# Altium footprint library WR-TBL_Rising Cage Clamp_5.00mm.PcbLib: 76 footprints (part 2 of 5)
Each footprint in its own frame and in the unit in brackets; x right, y up, seen from the top. Pads: shape width x height; smd on the part's side, far side on the other; paste and mask are expansions set on the pad; w line width, h text height; cw(c..) or ccw(c..) is an arc to the next point about the centre after c.
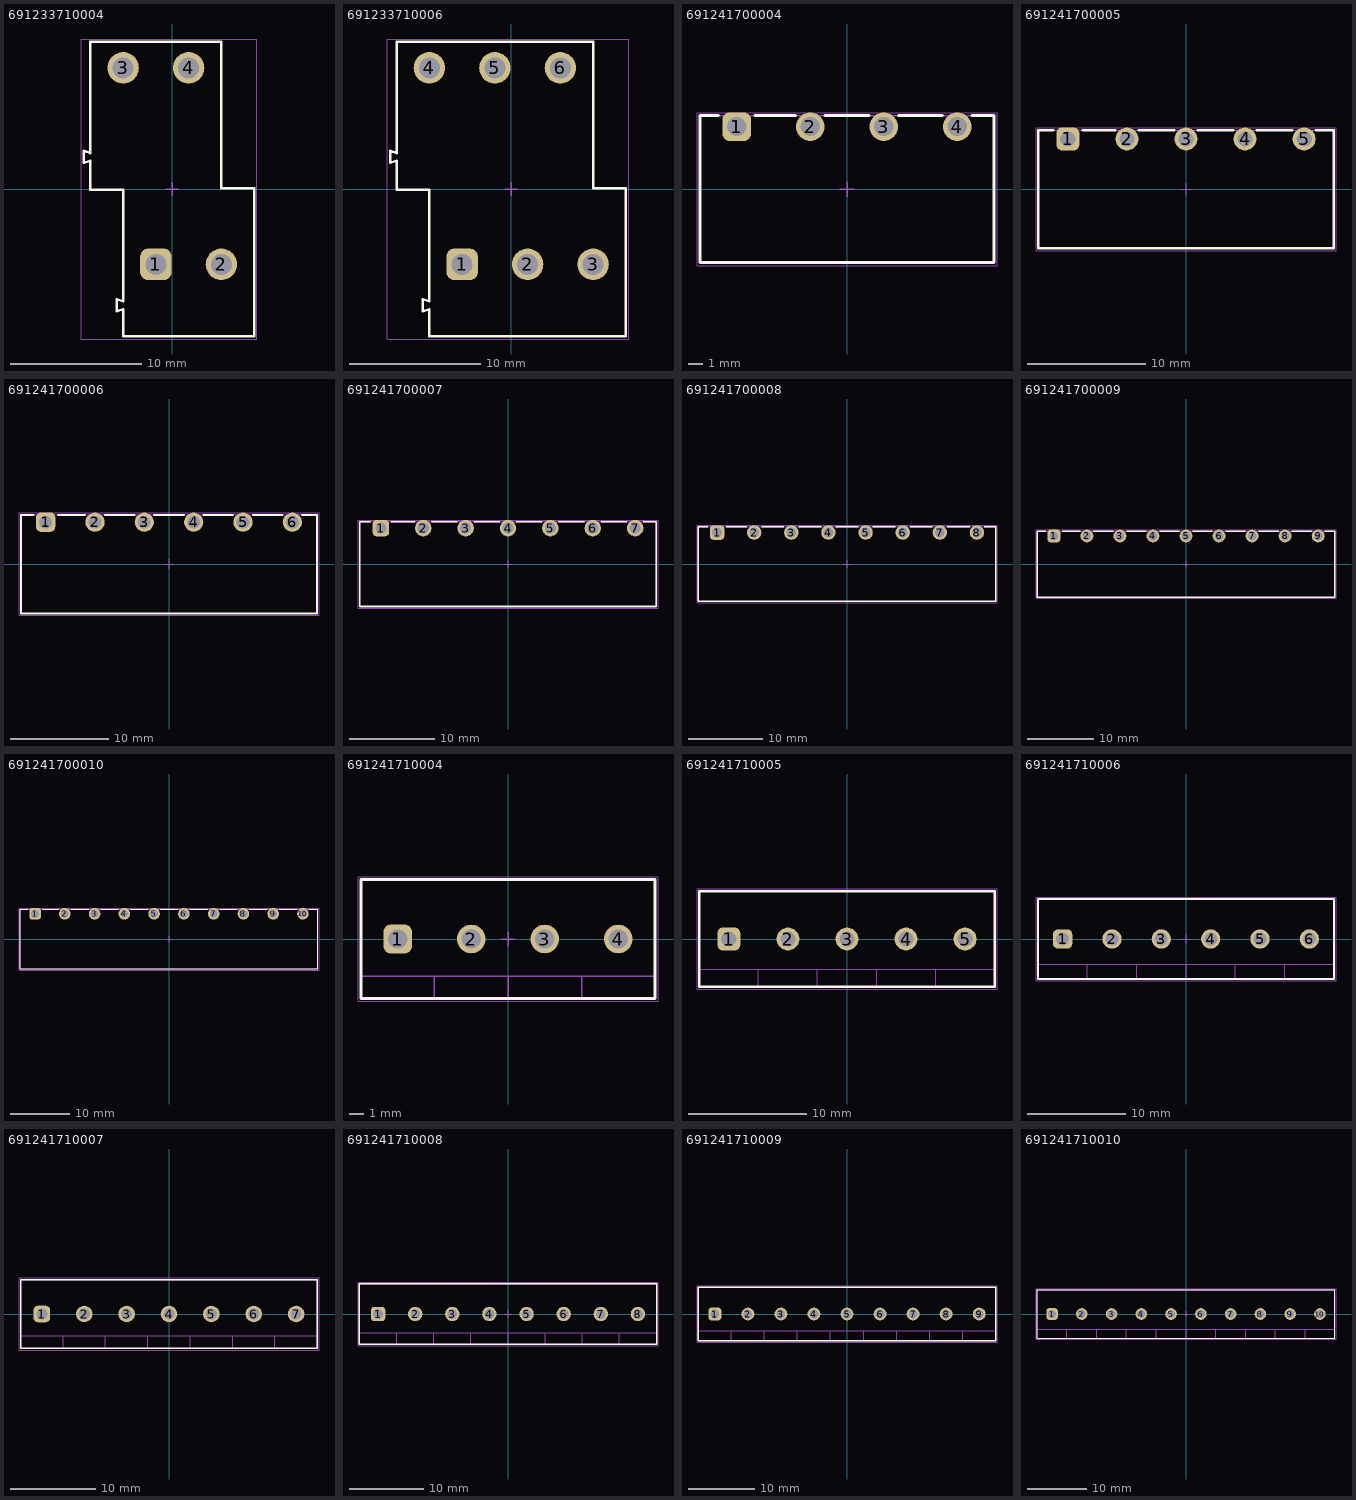
[diagram p1: the footprints below, top view; thin cyan lines are the x and y axes]

## 691233710004 [mm] "5,00mm - modular - 2 rows - Right - horizontal entry with rising cage clamp - 04p - h=31,5mm"
height 31.5
pads (4):
  rrect50% 2.4x2.4 hole 1.6: 1(-1.25,-5.75)
  round 2.4 hole 1.6: 2(3.75,-5.75) 3(-3.75,9.25) 4(1.25,9.25)
Top Overlay:
  lines w0.2: -6.75,2 -6.75,2.9 -6.25,2.75 -6.25,11.25 3.75,11.25 3.75,0.05 6.25,0.05 6.25,-11.25 -3.75,-11.25 -3.75,-9.17 -4.25,-9.32 -4.25,-8.42 -3.75,-8.57 -3.75,-0.05 -6.25,-0.05 -6.25,2.15 -6.75,2
Top Assembly:
  lines w0.1: -6.75,2 -6.25,2.15 -6.25,-0.05 -3.75,-0.05 -3.75,-8.57 -4.25,-8.42 -4.25,-9.32 -3.75,-9.17 -3.75,-11.25 6.25,-11.25 6.25,0.05 3.75,0.05 3.75,11.25 -6.25,11.25 -6.25,2.75 -6.75,2.9 -6.75,2
Top Designator:
  text ".Designator" at -3.647,-0.357 h1
Top 3D Body:
  lines w0.1: -6.75,2 -6.75,2.9 -6.25,2.75 -6.25,11.25 3.75,11.25 3.75,0.05 6.25,0.05 6.25,-11.25 -3.75,-11.25 -3.75,-9.17 -4.25,-9.32 -4.25,-8.42 -3.75,-8.57 -3.75,-0.05 -6.25,-0.05 -6.25,2.15 -6.75,2
Top Courtyard:
  lines w0.05: -6.95,-11.45 -6.95,11.45 6.45,11.45 6.45,-11.45 -6.95,-11.45
Top Component Center:
  lines w0.1: -0.5,0 0.5,0 ; 0,-0.5 0,0.5
3D body "691233710004.stp": height 31.55, standoff -4.95, extent -6.75,-11.25 6.25,11.25

## 691233710006 [mm] "5,00mm - modular - 2 rows - Right - horizontal entry with rising cage clamp - 06p - h=31,5mm"
height 31.5
pads (6):
  rrect50% 2.4x2.4 hole 1.6: 1(-3.75,-5.75)
  round 2.4 hole 1.6: 2(1.25,-5.75) 3(6.25,-5.75) 4(-6.25,9.25) 5(-1.25,9.25) 6(3.75,9.25)
Top Overlay:
  lines w0.2: -9.25,2 -9.25,2.9 -8.75,2.75 -8.75,11.25 6.25,11.25 6.25,0.05 8.75,0.05 8.75,-11.25 -6.25,-11.25 -6.25,-9.17 -6.75,-9.32 -6.75,-8.42 -6.25,-8.57 -6.25,-0.05 -8.75,-0.05 -8.75,2.15 -9.25,2
Top Assembly:
  lines w0.1: -9.25,2 -8.75,2.15 -8.75,-0.05 -6.25,-0.05 -6.25,-8.57 -6.75,-8.42 -6.75,-9.32 -6.25,-9.17 -6.25,-11.25 8.75,-11.25 8.75,0.05 6.25,0.05 6.25,11.25 -8.75,11.25 -8.75,2.75 -9.25,2.9 -9.25,2
Top Designator:
  text ".Designator" at -3.647,-0.357 h1
Top 3D Body:
  lines w0.1: -9.25,2 -9.25,2.9 -8.75,2.75 -8.75,11.25 6.25,11.25 6.25,0.05 8.75,0.05 8.75,-11.25 -6.25,-11.25 -6.25,-9.17 -6.75,-9.32 -6.75,-8.42 -6.25,-8.57 -6.25,-0.05 -8.75,-0.05 -8.75,2.15 -9.25,2
Top Courtyard:
  lines w0.05: -9.45,-11.45 -9.45,11.45 8.95,11.45 8.95,-11.45 -9.45,-11.45
Top Component Center:
  lines w0.1: -0.5,0 0.5,0 ; 0,-0.5 0,0.5
3D body "691233710006.stp": height 31.55, standoff -4.95, extent -9.25,-11.25 8.75,11.25

## 691241700004 [mm] "Serie 2417-5.00mm Vertical Cable Entry with Rising Cage Clamp, 4 pins"
height 8.1
pads (4):
  rrect50% 1.95x1.95 hole 1.3: 1(-7.5,4.25)
  round 1.95 hole 1.3: 2(-2.5,4.25) 3(2.5,4.25) 4(7.5,4.25)
Top Overlay:
  lines w0.2: -8.75,5 -10,5 -10,-5 10,-5 10,5 8.5,5 ; -6.25,5 -3.5,5 ; -1.5,5 1.5,5 ; 3.5,5 6.5,5
Top Assembly:
  lines w0.1: -10,-5 10,-5 10,5 -10,5 -10,-5
Top Designator:
  text ".Designator" at -3.647,-0.357 h1
Top 3D Body:
  lines w0.1: -10,-5 -10,5 10,5 10,-5 -10,-5
Top Courtyard:
  lines w0.05: -10.2,-5.2 10.2,-5.2 10.2,5.2 -10.2,5.2 -10.2,-5.2
Top Component Center:
  lines w0.1: -0.5,0 0.5,0 ; 0,-0.5 0,0.5
3D body "691241700004.stp": height 8.15, standoff -3.45, extent -10,-5 10,5

## 691241700005 [mm] "Serie 2417-5.00mm Vertical Cable Entry with Rising Cage Clamp, 5 pins"
height 8.1
pads (5):
  rrect50% 1.95x1.95 hole 1.3: 1(-10,4.25)
  round 1.95 hole 1.3: 2(-5,4.25) 3(0,4.25) 4(5,4.25) 5(10,4.25)
Top Overlay:
  lines w0.2: -11.25,5 -12.5,5 -12.5,-5 12.5,-5 12.5,5 11,5 ; -8.75,5 -6,5 ; -4,5 -1,5 ; 1,5 4,5 ; 6,5 9,5
Top Assembly:
  lines w0.1: -12.5,-5 12.5,-5 12.5,5 -12.5,5 -12.5,-5
Top Designator:
  text ".Designator" at -3.647,-0.357 h1
Top 3D Body:
  lines w0.1: -12.5,-5 -12.5,5 12.5,5 12.5,-5 -12.5,-5
Top Courtyard:
  lines w0.05: -12.7,-5.2 12.7,-5.2 12.7,5.2 -12.7,5.2 -12.7,-5.2
Top Component Center:
  lines w0.1: -0.5,0 0.5,0 ; 0,-0.5 0,0.5
3D body "691241700005.stp": height 8.15, standoff -3.45, extent -12.5,-5 12.5,5

## 691241700006 [mm] "Serie 2417-5.00mm Vertical Cable Entry with Rising Cage Clamp, 6 pins"
height 8.1
pads (6):
  rrect50% 1.95x1.95 hole 1.3: 1(-12.5,4.25)
  round 1.95 hole 1.3: 2(-7.5,4.25) 3(-2.5,4.25) 4(2.5,4.25) 5(7.5,4.25) 6(12.5,4.25)
Top Overlay:
  lines w0.2: -13.75,5 -15,5 -15,-5 15,-5 15,5 13.5,5 ; -11.25,5 -8.5,5 ; -6.5,5 -3.5,5 ; -1.5,5 1.5,5 ; 3.5,5 6.5,5 ; 8.5,5 11.5,5
Top Assembly:
  lines w0.1: -15,-5 15,-5 15,5 -15,5 -15,-5
Top Designator:
  text ".Designator" at -3.647,-0.357 h1
Top 3D Body:
  lines w0.1: -15,-5 -15,5 15,5 15,-5 -15,-5
Top Courtyard:
  lines w0.05: -15.2,-5.2 15.2,-5.2 15.2,5.2 -15.2,5.2 -15.2,-5.2
Top Component Center:
  lines w0.1: -0.5,0 0.5,0 ; 0,-0.5 0,0.5
3D body "691241700006.stp": height 8.15, standoff -3.45, extent -15,-5 15,5

## 691241700007 [mm] "Serie 2417-5.00mm Vertical Cable Entry with Rising Cage Clamp, 7 pins"
height 8.1
pads (7):
  rrect50% 1.95x1.95 hole 1.3: 1(-15,4.25)
  round 1.95 hole 1.3: 2(-10,4.25) 3(-5,4.25) 4(0,4.25) 5(5,4.25) 6(10,4.25) 7(15,4.25)
Top Overlay:
  lines w0.2: -16.25,5 -17.5,5 -17.5,-5 17.5,-5 17.5,5 16,5 ; -13.75,5 -11,5 ; -9,5 -6,5 ; -4,5 -1,5 ; 1,5 4,5 ; 6,5 9,5 ; 11,5 14,5
Top Assembly:
  lines w0.1: -17.5,-5 -17.5,5 17.5,5 17.5,-5 -17.5,-5
Top Designator:
  text ".Designator" at -3.647,-0.357 h1
Top 3D Body:
  lines w0.1: -17.5,-5 17.5,-5 17.5,5 -17.5,5 -17.5,-5
Top Courtyard:
  lines w0.05: -17.7,-5.2 -17.7,5.2 17.7,5.2 17.7,-5.2 -17.7,-5.2
Top Component Center:
  lines w0.1: -0.5,0 0.5,0 ; 0,-0.5 0,0.5
3D body "691241700007.stp": height 8.15, standoff -3.45, extent -17.5,-5 17.5,5

## 691241700008 [mm] "Serie 2417-5.00mm Vertical Cable Entry with Rising Cage Clamp, 8 pins"
height 8.1
pads (8):
  rrect50% 1.95x1.95 hole 1.3: 1(-17.5,4.25)
  round 1.95 hole 1.3: 2(-12.5,4.25) 3(-7.5,4.25) 4(-2.5,4.25) 5(2.5,4.25) 6(7.5,4.25) 7(12.5,4.25) 8(17.5,4.25)
Top Overlay:
  lines w0.2: -18.75,5 -20,5 -20,-5 20,-5 20,5 18.5,5 ; -16.25,5 -13.5,5 ; -11.5,5 -8.5,5 ; -6.5,5 -3.5,5 ; -1.5,5 1.5,5 ; 3.5,5 6.5,5 ; 8.5,5 11.5,5 ; 13.5,5 16.5,5
Top Assembly:
  lines w0.1: -20,-5 20,-5 20,5 -20,5 -20,-5
Top Designator:
  text ".Designator" at -3.647,-0.357 h1
Top 3D Body:
  lines w0.1: -20,-5 -20,5 20,5 20,-5 -20,-5
Top Courtyard:
  lines w0.05: -20.2,-5.2 20.2,-5.2 20.2,5.2 -20.2,5.2 -20.2,-5.2
Top Component Center:
  lines w0.1: -0.5,0 0.5,0 ; 0,-0.5 0,0.5
3D body "691241700008.stp": height 8.15, standoff -3.45, extent -20,-5 20,5

## 691241700009 [mm] "Serie 2417-5.00mm Vertical Cable Entry with Rising Cage Clamp, 9 pins"
height 8.1
pads (9):
  rrect50% 1.95x1.95 hole 1.3: 1(-20,4.25)
  round 1.95 hole 1.3: 2(-15,4.25) 3(-10,4.25) 4(-5,4.25) 5(0,4.25) 6(5,4.25) 7(10,4.25) 8(15,4.25) 9(20,4.25)
Top Overlay:
  lines w0.2: -21.25,5 -22.5,5 -22.5,-5 22.5,-5 22.5,5 21,5 ; -18.75,5 -16,5 ; -14,5 -11,5 ; -9,5 -6,5 ; -4,5 -1,5 ; 1,5 4,5 ; 6,5 9,5 ; 11,5 14,5 ; 16,5 19,5
Top Assembly:
  lines w0.1: -22.5,-5 -22.5,5 22.5,5 22.5,-5 -22.5,-5
Top Designator:
  text ".Designator" at -3.647,-0.357 h1
Top 3D Body:
  lines w0.1: -22.5,-5 22.5,-5 22.5,5 -22.5,5 -22.5,-5
Top Courtyard:
  lines w0.05: -22.7,-5.2 -22.7,5.2 22.7,5.2 22.7,-5.2 -22.7,-5.2
Top Component Center:
  lines w0.1: -0.5,0 0.5,0 ; 0,-0.5 0,0.5
3D body "691241700009.stp": height 8.15, standoff -3.45, extent -22.5,-5 22.5,5

## 691241700010 [mm] "Serie 2417-5.00mm Vertical Cable Entry with Rising Cage Clamp, 10 pins"
height 8.1
pads (10):
  rrect50% 1.95x1.95 hole 1.3: 1(-22.5,4.25)
  round 1.95 hole 1.3: 2(-17.5,4.25) 3(-12.5,4.25) 4(-7.5,4.25) 5(-2.5,4.25) 6(2.5,4.25) 7(7.5,4.25) 8(12.5,4.25) 9(17.5,4.25) 10(22.5,4.25)
Top Overlay:
  lines w0.2: -23.75,5 -25,5 -25,-5 25,-5 25,5 23.5,5 ; -21.25,5 -18.5,5 ; -16.5,5 -13.5,5 ; -11.5,5 -8.5,5 ; -6.5,5 -3.5,5 ; -1.5,5 1.5,5 ; 3.5,5 6.5,5 ; 8.5,5 11.5,5 ; 13.5,5 16.5,5 ; 18.5,5 21.5,5
Top Assembly:
  lines w0.1: -25,-5 25,-5 25,5 -25,5 -25,-5
Top Designator:
  text ".Designator" at -3.647,-0.357 h1
Top 3D Body:
  lines w0.1: -25,-5 -25,5 25,5 25,-5 -25,-5
Top Courtyard:
  lines w0.05: -25.2,-5.2 25.2,-5.2 25.2,5.2 -25.2,5.2 -25.2,-5.2
Top Component Center:
  lines w0.1: -0.5,0 0.5,0 ; 0,-0.5 0,0.5
3D body "691241700010.stp": height 8.15, standoff -3.45, extent -25,-5 25,5

## 691241710004 [mm] "Serie 2417 - 5.00 mm _ 4 pins"
height 10
pads (4):
  rrect50% 1.95x1.95 hole 1.3: 1(-7.5,0)
  round 1.95 hole 1.3: 2(-2.5,0) 3(2.5,0) 4(7.5,0)
Top Overlay:
  lines w0.2: -10,-4.05 -10,4.05 10,4.05 10,-4.05 -10,-4.05
Top Assembly:
  lines w0.1: -10,-2.55 10,-2.55 ; -5,-4.05 -5,-2.55 ; 0,-4.05 0,-2.55 ; 5,-4.05 5,-2.55 ; -10,-4.05 10,-4.05 10,4.05 -10,4.05 -10,-4.05
Top Designator:
  text ".Designator" at -3.647,-0.357 h1
Top 3D Body:
  lines w0.1: -10,-2.55 10,-2.55 ; -5,-4.05 -5,-2.55 ; 0,-4.05 0,-2.55 ; 5,-4.05 5,-2.55 ; -10,-4.05 -10,4.05 10,4.05 10,-4.05 -10,-4.05
Top Courtyard:
  lines w0.05: -10.2,-4.25 -10.2,4.25 10.2,4.25 10.2,-4.25 -10.2,-4.25
Top Component Center:
  lines w0.1: -0.5,0 0.5,0 ; 0,-0.5 0,0.5
3D body "691241710004.stp": height 10.1, standoff -3.4, extent -10,-4.05 10,4.05

## 691241710005 [mm] "Serie 2417 - 5.00 mm _ 5 pins"
height 10
pads (5):
  rrect50% 1.95x1.95 hole 1.3: 1(-10,0)
  round 1.95 hole 1.3: 2(-5,0) 3(0,0) 4(5,0) 5(10,0)
Top Overlay:
  lines w0.2: -12.5,-4.05 12.5,-4.05 12.5,4.05 -12.5,4.05 -12.5,-4.05
Top Assembly:
  lines w0.1: -12.5,-2.55 12.5,-2.55 ; -7.5,-4.05 -7.5,-2.55 ; -2.5,-4.05 -2.5,-2.55 ; 2.5,-4.05 2.5,-2.55 ; 7.5,-4.05 7.5,-2.55 ; -12.5,-4.05 -12.5,4.05 12.5,4.05 12.5,-4.05 -12.5,-4.05
Top Designator:
  text ".Designator" at -3.647,-0.357 h1
Top 3D Body:
  lines w0.1: -12.5,-2.55 12.5,-2.55 ; -7.5,-4.05 -7.5,-2.55 ; -2.5,-4.05 -2.5,-2.55 ; 2.5,-4.05 2.5,-2.55 ; 7.5,-4.05 7.5,-2.55 ; -12.5,-4.05 12.5,-4.05 12.5,4.05 -12.5,4.05 -12.5,-4.05
Top Courtyard:
  lines w0.05: -12.7,-4.25 12.7,-4.25 12.7,4.25 -12.7,4.25 -12.7,-4.25
Top Component Center:
  lines w0.1: -0.5,0 0.5,0 ; 0,-0.5 0,0.5
3D body "691241710005.stp": height 10.1, standoff -3.4, extent -12.5,-4.05 12.5,4.05

## 691241710006 [mm] "Serie 2417 - 5.00 mm _ 6 pins"
height 10
pads (6):
  rrect50% 1.95x1.95 hole 1.3: 1(-12.5,0)
  round 1.95 hole 1.3: 2(-7.5,0) 3(-2.5,0) 4(2.5,0) 5(7.5,0) 6(12.5,0)
Top Overlay:
  lines w0.2: -15,-4.05 15,-4.05 15,4.05 -15,4.05 -15,-4.05
Top Assembly:
  lines w0.1: -15,-2.55 15,-2.55 ; -10,-4.05 -10,-2.55 ; -5,-4.05 -5,-2.55 ; 0,-4.05 0,-2.55 ; 5,-4.05 5,-2.55 ; 10,-4.05 10,-2.55 ; -15,-4.05 -15,4.05 15,4.05 15,-4.05 -15,-4.05
Top Designator:
  text ".Designator" at -3.647,-0.357 h1
Top 3D Body:
  lines w0.1: -15,-2.55 15,-2.55 ; -10,-4.05 -10,-2.55 ; -5,-4.05 -5,-2.55 ; 0,-4.05 0,-2.55 ; 5,-4.05 5,-2.55 ; 10,-4.05 10,-2.55 ; -15,-4.05 15,-4.05 15,4.05 -15,4.05 -15,-4.05
Top Courtyard:
  lines w0.05: -15.2,-4.25 15.2,-4.25 15.2,4.25 -15.2,4.25 -15.2,-4.25
Top Component Center:
  lines w0.1: -0.5,0 0.5,0 ; 0,-0.5 0,0.5
3D body "691241710006.stp": height 10.1, standoff -3.4, extent -15,-4.05 15,4.05

## 691241710007 [mm] "Serie 2417 - 5.00 mm _ 7 pins"
height 10
pads (7):
  rrect50% 1.95x1.95 hole 1.3: 1(-15,0)
  round 1.95 hole 1.3: 2(-10,0) 3(-5,0) 4(0,0) 5(5,0) 6(10,0) 7(15,0)
Top Overlay:
  lines w0.2: -17.5,-4.05 17.5,-4.05 17.5,4.05 -17.5,4.05 -17.5,-4.05
Top Assembly:
  lines w0.1: -17.5,-2.55 17.5,-2.55 ; -12.5,-4.05 -12.5,-2.55 ; -7.5,-4.05 -7.5,-2.55 ; -2.5,-4.05 -2.5,-2.55 ; 2.5,-4.05 2.5,-2.55 ; 7.5,-4.05 7.5,-2.55 ; 12.5,-4.05 12.5,-2.55 ; -17.5,-4.05 -17.5,4.05 17.5,4.05 17.5,-4.05 -17.5,-4.05
Top Designator:
  text ".Designator" at -3.647,-0.357 h1
Top 3D Body:
  lines w0.1: -17.5,-2.55 17.5,-2.55 ; -12.5,-4.05 -12.5,-2.55 ; -7.5,-4.05 -7.5,-2.55 ; -2.5,-4.05 -2.5,-2.55 ; 2.5,-4.05 2.5,-2.55 ; 7.5,-4.05 7.5,-2.55 ; 12.5,-4.05 12.5,-2.55 ; -17.5,-4.05 17.5,-4.05 17.5,4.05 -17.5,4.05 -17.5,-4.05
Top Courtyard:
  lines w0.05: -17.7,-4.25 17.7,-4.25 17.7,4.25 -17.7,4.25 -17.7,-4.25
Top Component Center:
  lines w0.1: -0.5,0 0.5,0 ; 0,-0.5 0,0.5
3D body "691241710007.stp": height 10.1, standoff -3.4, extent -17.5,-4.05 17.5,4.05

## 691241710008 [mm] "Serie 2417 - 5.00 mm _ 8 pins"
height 10
pads (8):
  rrect50% 1.95x1.95 hole 1.3: 1(-17.5,0)
  round 1.95 hole 1.3: 2(-12.5,0) 3(-7.5,0) 4(-2.5,0) 5(2.5,0) 6(7.5,0) 7(12.5,0) 8(17.5,0)
Top Overlay:
  lines w0.2: -20,-4.05 20,-4.05 20,4.05 -20,4.05 -20,-4.05
Top Assembly:
  lines w0.1: -20,-2.55 20,-2.55 ; -15,-4.05 -15,-2.55 ; -10,-4.05 -10,-2.55 ; -5,-4.05 -5,-2.55 ; 0,-4.05 0,-2.55 ; 5,-4.05 5,-2.55 ; 10,-4.05 10,-2.55 ; 15,-4.05 15,-2.55 ; -20,-4.05 -20,4.05 20,4.05 20,-4.05 -20,-4.05
Top Designator:
  text ".Designator" at -3.647,-0.357 h1
Top 3D Body:
  lines w0.1: -20,-2.55 20,-2.55 ; -15,-4.05 -15,-2.55 ; -10,-4.05 -10,-2.55 ; -5,-4.05 -5,-2.55 ; 0,-4.05 0,-2.55 ; 5,-4.05 5,-2.55 ; 10,-4.05 10,-2.55 ; 15,-4.05 15,-2.55 ; -20,-4.05 20,-4.05 20,4.05 -20,4.05 -20,-4.05
Top Courtyard:
  lines w0.05: -20.2,-4.25 20.2,-4.25 20.2,4.25 -20.2,4.25 -20.2,-4.25
Top Component Center:
  lines w0.1: -0.5,0 0.5,0 ; 0,-0.5 0,0.5
3D body "691241710008.stp": height 10.1, standoff -3.4, extent -20,-4.05 20,4.05

## 691241710009 [mm] "Serie 2417 - 5.00 mm _ 9 pins"
height 10
pads (9):
  rrect50% 1.95x1.95 hole 1.3: 1(-20,0)
  round 1.95 hole 1.3: 2(-15,0) 3(-10,0) 4(-5,0) 5(0,0) 6(5,0) 7(10,0) 8(15,0) 9(20,0)
Top Overlay:
  lines w0.2: -22.5,-4.05 -22.5,4.05 22.5,4.05 22.5,-4.05 -22.5,-4.05
Top Assembly:
  lines w0.1: -22.5,-2.55 22.5,-2.55 ; -17.5,-4.05 -17.5,-2.55 ; -12.5,-4.05 -12.5,-2.55 ; -7.5,-4.05 -7.5,-2.55 ; -2.5,-4.05 -2.5,-2.55 ; 2.5,-4.05 2.5,-2.55 ; 7.5,-4.05 7.5,-2.55 ; 12.5,-4.05 12.5,-2.55 ; 17.5,-4.05 17.5,-2.55 ; -22.5,-4.05 22.5,-4.05 22.5,4.05 -22.5,4.05 -22.5,-4.05
Top Designator:
  text ".Designator" at -3.647,-0.357 h1
Top 3D Body:
  lines w0.1: -22.5,-2.55 22.5,-2.55 ; -17.5,-4.05 -17.5,-2.55 ; -12.5,-4.05 -12.5,-2.55 ; -7.5,-4.05 -7.5,-2.55 ; -2.5,-4.05 -2.5,-2.55 ; 2.5,-4.05 2.5,-2.55 ; 7.5,-4.05 7.5,-2.55 ; 12.5,-4.05 12.5,-2.55 ; 17.5,-4.05 17.5,-2.55 ; -22.5,-4.05 -22.5,4.05 22.5,4.05 22.5,-4.05 -22.5,-4.05
Top Courtyard:
  lines w0.05: -22.7,-4.25 -22.7,4.25 22.7,4.25 22.7,-4.25 -22.7,-4.25
Top Component Center:
  lines w0.1: -0.5,0 0.5,0 ; 0,-0.5 0,0.5
3D body "691241710009.stp": height 10.1, standoff -3.4, extent -22.5,-4.05 22.5,4.05

## 691241710010 [mm] "Serie 2417 - 5.00 mm _ 10 pins"
height 10
pads (10):
  rrect50% 1.95x1.95 hole 1.3: 1(-22.5,0)
  round 1.95 hole 1.3: 2(-17.5,0) 3(-12.5,0) 4(-7.5,0) 5(-2.5,0) 6(2.5,0) 7(7.5,0) 8(12.5,0) 9(17.5,0) 10(22.5,0)
Top Overlay:
  lines w0.2: -25,-4.05 -25,4.05 25,4.05 25,-4.05 -25,-4.05
Top Assembly:
  lines w0.1: -25,-2.55 25,-2.55 ; -20,-4.05 -20,-2.55 ; -15,-4.05 -15,-2.55 ; -10,-4.05 -10,-2.55 ; -5,-4.05 -5,-2.55 ; 0,-4.05 0,-2.55 ; 5,-4.05 5,-2.55 ; 10,-4.05 10,-2.55 ; 15,-4.05 15,-2.55 ; 20,-4.05 20,-2.55 ; -25,-4.05 25,-4.05 25,4.05 -25,4.05 -25,-4.05
Top Designator:
  text ".Designator" at -3.647,-0.357 h1
Top 3D Body:
  lines w0.1: -25,-2.55 25,-2.55 ; -20,-4.05 -20,-2.55 ; -15,-4.05 -15,-2.55 ; -10,-4.05 -10,-2.55 ; -5,-4.05 -5,-2.55 ; 0,-4.05 0,-2.55 ; 5,-4.05 5,-2.55 ; 10,-4.05 10,-2.55 ; 15,-4.05 15,-2.55 ; 20,-4.05 20,-2.55 ; -25,-4.05 -25,4.05 25,4.05 25,-4.05 -25,-4.05
Top Courtyard:
  lines w0.05: -25.2,-4.25 -25.2,4.25 25.2,4.25 25.2,-4.25 -25.2,-4.25
Top Component Center:
  lines w0.1: -0.5,0 0.5,0 ; 0,-0.5 0,0.5
3D body "691241710010.stp": height 10.1, standoff -3.4, extent -25,-4.05 25,4.05